# EAGLE library part 12POS-*MM-? (library con-wurth-board-header)
Wurth Elektronik WR-BHD Male Box Headers
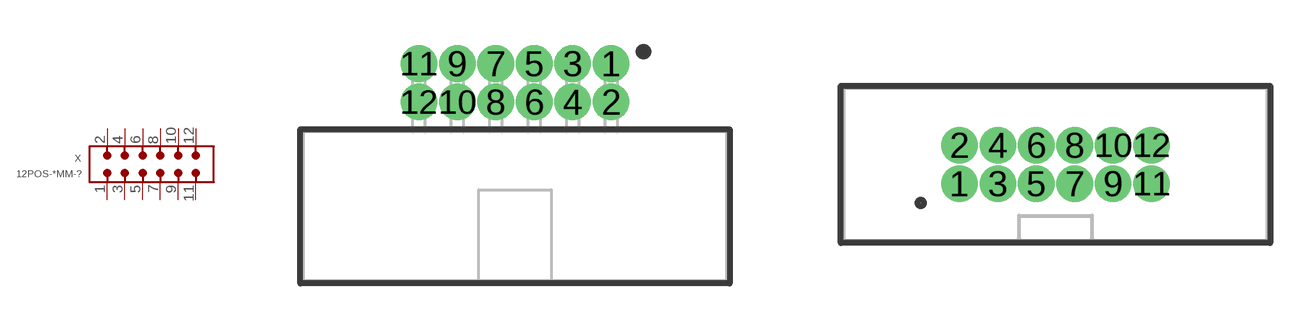
[diagram p3: symbol with the pads of 62701221721; footprints 62701221721, 62701221621]

Designator prefix X

## 12POS-1.27MM-62701221721 (CONTACT-RESISTANCE: 20mOhm; DATASHEET-URL: https://www.we-online.com/redexpert/spec/62701221721?ae; GENDER: Male; IR: 1A; LENGTH: 13.97mm; MOUNT: THT; PART-NUMBER: 62701221721; PINS: 12; PITCH: 1.27mm; TYPE: Angled; VALUE: 62701221721; WORKING-VOLTAGE: 50V(AC))  [62701221721]
1  1  pas
2  2  pas
3  3  pas
4  4  pas
5  5  pas
6  6  pas
7  7  pas
8  8  pas
9  9  pas
10  10  pas
11  11  pas
12  12  pas

## 12POS-1.27MM-62701221621 (CONTACT-RESISTANCE: 20mOhm; DATASHEET-URL: https://www.we-online.com/redexpert/spec/62701221621?ae; GENDER: Male; IR: 1A; LENGTH: 13.97mm; MOUNT: THT; PART-NUMBER: 62701221621; PINS: 12; PITCH: 1.27mm; TYPE: Straight; VALUE: 62701221621; WORKING-VOLTAGE: 50V(AC))  [62701221621]
Pads as for 62701221721

## 12POS-1.27MM-62701220621 (CONTACT-RESISTANCE: 20mOhm; DATASHEET-URL: https://www.we-online.com/redexpert/spec/62701220621?ae; GENDER: Male; IR: 1A; LENGTH: 13.97mm; MOUNT: SMT; PART-NUMBER: 62701220621; PINS: 12; PITCH: 1.27mm; TYPE: Straight; VALUE: 62701220621; WORKING-VOLTAGE: 50V(AC))  [62701220621]
Pads as for 62701221721

## 12POS-1.27MM-62731220621 (CONTACT-RESISTANCE: 20mOhm; DATASHEET-URL: https://www.we-online.com/redexpert/spec/62731220621?ae; GENDER: Male; IR: 1A; LENGTH: 13.97mm; MOUNT: SMT; PART-NUMBER: 62731220621; PINS: 12; PITCH: 1.27 mm; TYPE: Straight; VALUE: 62731220621; WORKING-VOLTAGE: 50V(AC))  [62731220621]
Pads as for 62701221721

## Footprint 62701221721 (pad centres in mm)
WR-BHD 1,27mm Male THT Box Header Right angle, 12Pins
drill 0.7 pad 1.05: 1 3.175,4.72; 2 3.175,3.45; 3 1.905,4.72; 4 1.905,3.45; 5 0.635,4.72; 6 0.635,3.45; 7 -0.635,4.72; 8 -0.635,3.45; 9 -1.905,4.72; 10 -1.905,3.45; 11 -3.175,4.72; 12 -3.175,3.45

## Footprint 62701221621 (pad centres in mm)
WR-BHD 1.27mm Male THT Box Header Straight, 12Pins
drill 0.7 pad 1.05: 1 -3.175,-0.635; 2 -3.175,0.635; 3 -1.905,-0.635; 4 -1.905,0.635; 5 -0.635,-0.635; 6 -0.635,0.635; 7 0.635,-0.635; 8 0.635,0.635; 9 1.905,-0.635; 10 1.905,0.635; 11 3.175,-0.635; 12 3.175,0.635

## Footprint 62701220621 (pad centres in mm)
WR-BHD 1.27 mm Male SMT Box Header Pitch: 1.27mm, 12pins, SMT
smd 0.65 x 2.76: 1 -3.175,-2.02; 2 -3.175,2.02; 3 -1.905,-2.02; 4 -1.905,2.02; 5 -0.635,-2.02; 6 -0.635,2.02; 7 0.635,-2.02; 8 0.635,2.02; 9 1.905,-2.02; 10 1.905,2.02; 11 3.175,-2.02; 12 3.175,2.02

## Footprint 62731220621 (pad centres in mm)
WR-BHD 1.27 mm Male SMT Box Header Pitch: 1.27mm, 12pins, SMT
smd 0.65 x 2.76: 1 -3.175,-2.02; 2 -3.175,2.02; 3 -1.905,-2.02; 4 -1.905,2.02; 5 -0.635,-2.02; 6 -0.635,2.02; 7 0.635,-2.02; 8 0.635,2.02; 9 1.905,-2.02; 10 1.905,2.02; 11 3.175,-2.02; 12 3.175,2.02